# EAGLE library part GL865/8-DUAL (library X893)
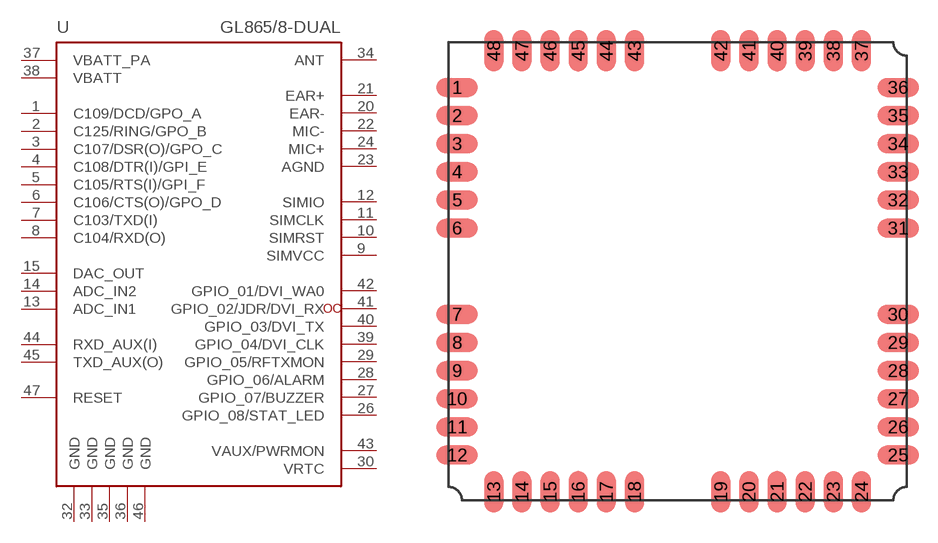
[diagram p110: symbol with the pads of GL865/8-DUAL; footprint GL865/8-DUAL]

Designator prefix U

## GL865/8-DUAL  [GL865/8-DUAL]
1  C109/DCD/GPO_A  out
2  C125/RING/GPO_B  out
3  C107/DSR(O)/GPO_C  out
4  C108/DTR(I)/GPI_E  in
5  C105/RTS(I)/GPI_F  in
6  C106/CTS(O)/GPO_D  out
7  C103/TXD(I)  in
8  C104/RXD(O)  out
9  SIMVCC  pas
10  SIMRST  out
11  SIMCLK  out
12  SIMIO
13  ADC_IN1  in
14  ADC_IN2  in
15  DAC_OUT  out
20  EAR-  pas
21  EAR+  pas
22  MIC-  pas
23  AGND  pas
24  MIC+  pas
26  GPIO_08/STAT_LED
27  GPIO_07/BUZZER
28  GPIO_06/ALARM
29  GPIO_05/RFTXMON
30  VRTC  pas
32  GND  pwr
33  GND  pwr
34  ANT  pas
35  GND  pwr
36  GND  pwr
37  VBATT_PA  pas
38  VBATT  pas
39  GPIO_04/DVI_CLK
40  GPIO_03/DVI_TX
41  GPIO_02/JDR/DVI_RX
42  GPIO_01/DVI_WA0
43  VAUX/PWRMON  out
44  RXD_AUX(I)  in
45  TXD_AUX(O)  out
46  GND  pwr
47  RESET  in

## Footprint GL865/8-DUAL (pad centres in mm)
smd 2.2 x 1: 1 -11.75,9.8; 2 -11.75,8.3; 3 -11.75,6.8; 4 -11.75,5.3; 5 -11.75,3.8; 6 -11.75,2.3; 7 -11.75,-2.3; 8 -11.75,-3.8; 9 -11.75,-5.3; 10 -11.75,-6.8; 11 -11.75,-8.3; 12 -11.75,-9.8; 25 11.75,-9.8; 26 11.75,-8.3; 27 11.75,-6.8; 28 11.75,-5.3; 29 11.75,-3.8; 30 11.75,-2.3; 31 11.75,2.3; 32 11.75,3.8; 33 11.75,5.3; 34 11.75,6.8; 35 11.75,8.3; 36 11.75,9.8
smd 1 x 2.2: 13 -9.8,-11.75; 14 -8.3,-11.75; 15 -6.8,-11.75; 16 -5.3,-11.75; 17 -3.8,-11.75; 18 -2.3,-11.75; 19 2.3,-11.75; 20 3.8,-11.75; 21 5.3,-11.75; 22 6.8,-11.75; 23 8.3,-11.75; 24 9.8,-11.75; 37 9.8,11.75; 38 8.3,11.75; 39 6.8,11.75; 40 5.3,11.75; 41 3.8,11.75; 42 2.3,11.75; 43 -2.3,11.75; 44 -3.8,11.75; 45 -5.3,11.75; 46 -6.8,11.75; 47 -8.3,11.75; 48 -9.8,11.75